# Altium footprint library NVF6P02T3G.PcbLib: 1 footprints
Each footprint in its own frame and in the unit in brackets; x right, y up, seen from the top. Pads: shape width x height; smd on the part's side, far side on the other; paste and mask are expansions set on the pad; w line width, h text height; cw(c..) or ccw(c..) is an arc to the next point about the centre after c.
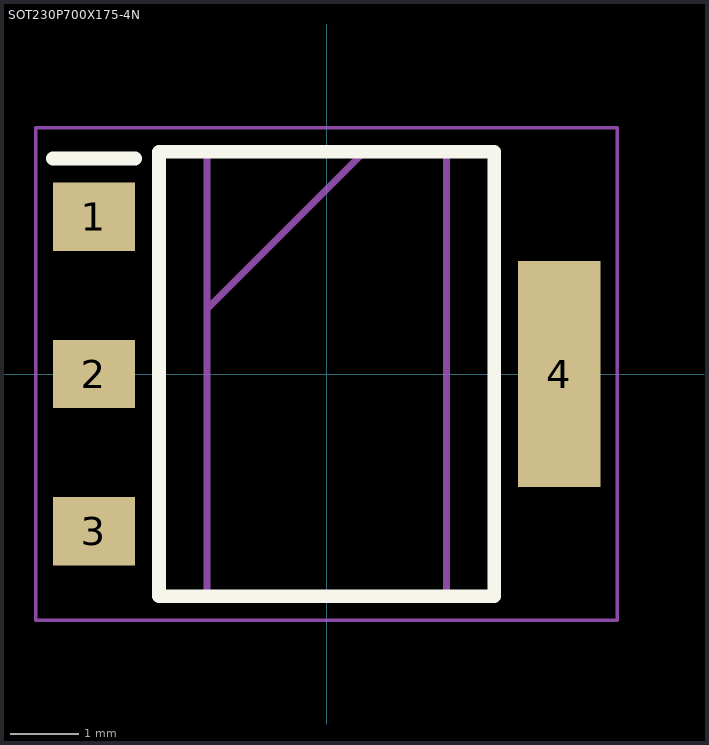
[diagram p0: the footprint, top view; thin cyan lines are the x and y axes]

## SOT230P700X175-4N [mm]
pads (4):
  rect 1.2x1 smd: 1(-3.4,2.3) 2(-3.4,0) 3(-3.4,-2.3)
  rect 1.2x3.3 smd: 4(3.4,0)
Top Overlay:
  lines w0.2: -4,3.15 -2.8,3.15 ; -2.45,-3.25 2.45,-3.25 2.45,3.25 -2.45,3.25 -2.45,-3.25
Mechanical 13:
  lines w0.1: -1.75,0.95 0.55,3.25 ; -1.75,-3.25 1.75,-3.25 1.75,3.25 -1.75,3.25 -1.75,-3.25
Mechanical 15:
  lines w0.05: -4.25,-3.6 4.25,-3.6 4.25,3.6 -4.25,3.6 -4.25,-3.6
3D body "SOT223-3.step": height 1.6, standoff 0, extent -3.587,-3.225 3.487,3.275